# Altium footprint library LVK20_Kelvin.PcbLib: 1 footprints
Each footprint in its own frame and in the unit in brackets; x right, y up, seen from the top. Pads: shape width x height; smd on the part's side, far side on the other; paste and mask are expansions set on the pad; w line width, h text height; cw(c..) or ccw(c..) is an arc to the next point about the centre after c.
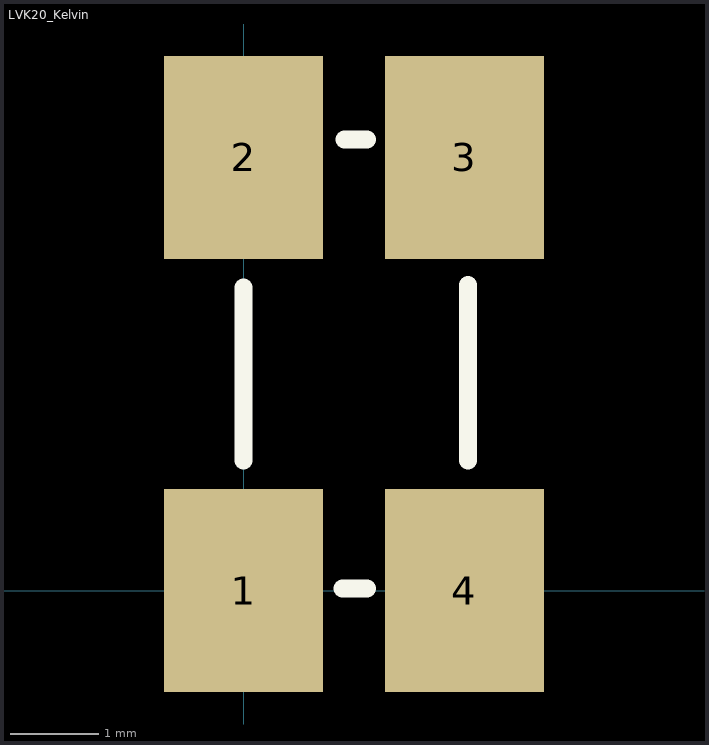
[diagram p0: the footprint, top view; thin cyan lines are the x and y axes]

## LVK20_Kelvin [mm]
height 0.5
pads (4):
  rect 1.8x2.3 smd: 1(0,0) 2(0,4.9) 3(2.5,4.9) 4(2.5,0)
TopOverlay:
  lines w0.203: 0,1.473 0,3.429 ; 1.118,0.025 1.397,0.025 ; 1.143,5.105 1.397,5.105 ; 2.54,1.473 2.54,3.454
3D body: height 0.67, standoff -0.05, extent -0.357,-0.754 2.743,5.657